# Altium footprint library 2021-03-13_11-03-02.PcbLib: 2 footprints
Each footprint in its own frame and in the unit in brackets; x right, y up, seen from the top. Pads: shape width x height; smd on the part's side, far side on the other; paste and mask are expansions set on the pad; w line width, h text height; cw(c..) or ccw(c..) is an arc to the next point about the centre after c.
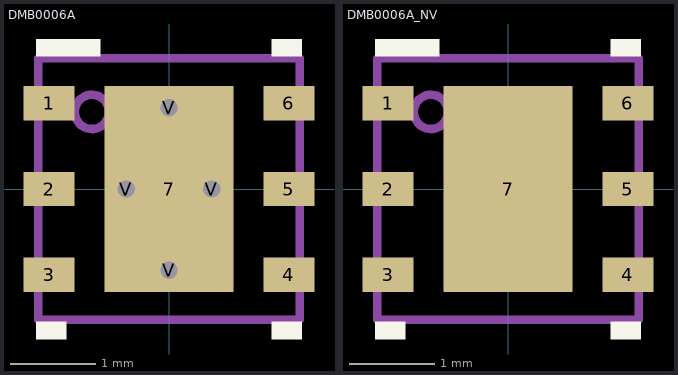
[diagram p0: the footprints below, top view; thin cyan lines are the x and y axes]

## DMB0006A [mm]
pads (11):
  rect 0.6x0.4 smd paste+0 mask+0: 1(-1.4,1) 2(-1.4,0) 3(-1.4,-1) 4(1.4,-1) 5(1.4,0) 6(1.4,1)
  rect 1.5x2.4 smd paste-1.187 mask+0: 7(0,0)
  round 0.5 hole 0.203 mask+0: V(-0.5,0) V(0,-0.95) V(0,0.95) V(0.5,0)
Top Overlay:
  region: -1.55,1.75 -1.55,1.55 -0.8,1.55 -0.8,1.75
  region: 1.2,1.75 1.2,1.55 1.55,1.55 1.55,1.75
  region: 1.2,-1.55 1.2,-1.75 1.55,-1.75 1.55,-1.55
  region: -1.55,-1.55 -1.55,-1.75 -1.2,-1.75 -1.2,-1.55
Top Paste:
  region: -0.689,0.138 -0.69,0.148 -0.69,1.112 -0.689,1.122 -0.686,1.131 -0.682,1.139 -0.676,1.146 -0.669,1.152 -0.661,1.156 -0.652,1.159 -0.642,1.16 0.642,1.16 0.652,1.159 0.661,1.156 0.669,1.152 0.676,1.146 0.682,1.139 0.686,1.131 0.689,1.122 0.69,1.112 0.69,0.148 0.689,0.138 0.686,0.129 0.682,0.121 0.676,0.114 0.669,0.108 0.661,0.104 0.652,0.101 0.642,0.1 -0.642,0.1 -0.652,0.101 -0.661,0.104 -0.669,0.108 -0.676,0.114 -0.682,0.121 -0.686,0.129
  region: -0.689,-1.122 -0.69,-1.112 -0.69,-0.148 -0.689,-0.138 -0.686,-0.129 -0.682,-0.121 -0.676,-0.114 -0.669,-0.108 -0.661,-0.104 -0.652,-0.101 -0.642,-0.1 0.642,-0.1 0.652,-0.101 0.661,-0.104 0.669,-0.108 0.676,-0.114 0.682,-0.121 0.686,-0.129 0.689,-0.138 0.69,-0.148 0.69,-1.112 0.689,-1.122 0.686,-1.131 0.682,-1.139 0.676,-1.146 0.669,-1.152 0.661,-1.156 0.652,-1.159 0.642,-1.16 -0.642,-1.16 -0.652,-1.159 -0.661,-1.156 -0.669,-1.152 -0.676,-1.146 -0.682,-1.139 -0.686,-1.131
Mechanical 13:
  circle w0.1: c-0.9,0.9 r0.2
  lines w0.1: -1.525,-1.525 1.525,-1.525 1.525,1.525 -1.525,1.525 -1.525,-1.525
  text ".Designator" at -1.35,-1.035 h1.27
3D body: height 0.25, standoff 0, extent 0,0 0.254,0.254

## DMB0006A_NV [mm]
pads (7):
  rect 0.6x0.4 smd paste+0 mask+0: 1(-1.4,1) 2(-1.4,0) 3(-1.4,-1) 4(1.4,-1) 5(1.4,0) 6(1.4,1)
  rect 1.5x2.4 smd paste-1.187 mask+0: 7(0,0)
Top Overlay:
  region: -1.55,1.75 -1.55,1.55 -0.8,1.55 -0.8,1.75
  region: 1.2,1.75 1.2,1.55 1.55,1.55 1.55,1.75
  region: 1.2,-1.55 1.2,-1.75 1.55,-1.75 1.55,-1.55
  region: -1.55,-1.55 -1.55,-1.75 -1.2,-1.75 -1.2,-1.55
Top Paste:
  region: -0.689,-1.122 -0.69,-1.112 -0.69,-0.148 -0.689,-0.138 -0.686,-0.129 -0.682,-0.121 -0.676,-0.114 -0.669,-0.108 -0.661,-0.104 -0.652,-0.101 -0.642,-0.1 0.642,-0.1 0.652,-0.101 0.661,-0.104 0.669,-0.108 0.676,-0.114 0.682,-0.121 0.686,-0.129 0.689,-0.138 0.69,-0.148 0.69,-1.112 0.689,-1.122 0.686,-1.131 0.682,-1.139 0.676,-1.146 0.669,-1.152 0.661,-1.156 0.652,-1.159 0.642,-1.16 -0.642,-1.16 -0.652,-1.159 -0.661,-1.156 -0.669,-1.152 -0.676,-1.146 -0.682,-1.139 -0.686,-1.131
  region: -0.689,0.138 -0.69,0.148 -0.69,1.112 -0.689,1.122 -0.686,1.131 -0.682,1.139 -0.676,1.146 -0.669,1.152 -0.661,1.156 -0.652,1.159 -0.642,1.16 0.642,1.16 0.652,1.159 0.661,1.156 0.669,1.152 0.676,1.146 0.682,1.139 0.686,1.131 0.689,1.122 0.69,1.112 0.69,0.148 0.689,0.138 0.686,0.129 0.682,0.121 0.676,0.114 0.669,0.108 0.661,0.104 0.652,0.101 0.642,0.1 -0.642,0.1 -0.652,0.101 -0.661,0.104 -0.669,0.108 -0.676,0.114 -0.682,0.121 -0.686,0.129
Mechanical 13:
  circle w0.1: c-0.9,0.9 r0.2
  lines w0.1: -1.525,-1.525 1.525,-1.525 1.525,1.525 -1.525,1.525 -1.525,-1.525
  text ".Designator" at -1.35,-1.035 h1.27
3D body: height 0.25, standoff 0, extent 0,0 0.254,0.254